# EAGLE library part AW-CU488 (library temp)
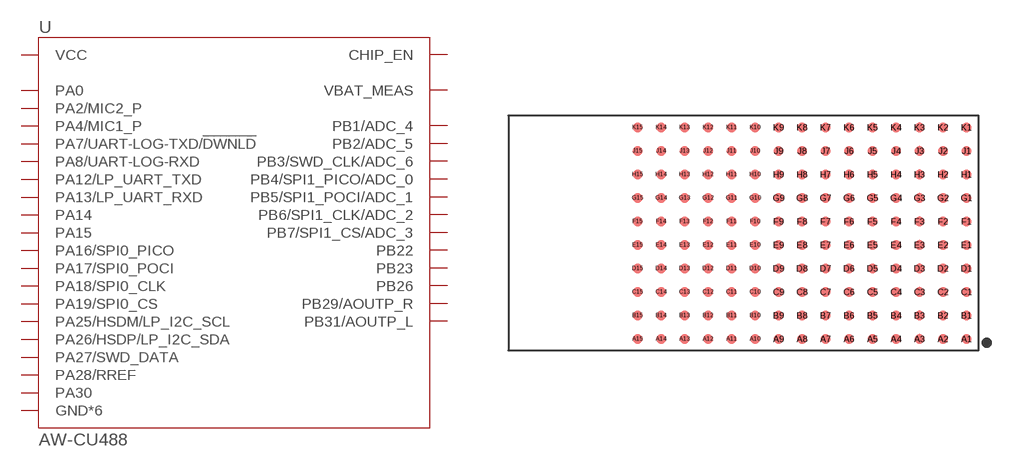
[diagram p0: symbol with the pads of LGA150_AW-CU488; footprint LGA150_AW-CU488]

Designator prefix -

## AW-CU488LGA150 (PROD_ID: IC-16762; VALUE: AW-CU488)  [LGA150_AW-CU488]
A1  GND*6
A2  GND*6
A3  PB1/ADC_4
A4  PB2/ADC_5
A5  PA25/HSDM/LP_I2C_SCL
A6  PA26/HSDP/LP_I2C_SDA
A7  PA28/RREF
A8  PA30
A9  PA27/SWD_DATA
A10  PA18/SPI0_CLK
A11  PA16/SPI0_PICO
A12  PA14
A13  PA12/LP_UART_TXD
A14  GND*6
A15  GND*6
B1  PB3/SWD_CLK/ADC_6
B2  PB4/SPI1_PICO/ADC_0
B10  PA19/SPI0_CS
B11  PA17/SPI0_POCI
B12  PA15
B13  PA13/LP_UART_RXD
B14  GND*6
B15  GND*6
C1  PB5/SPI1_POCI/ADC_1
C2  PB6/SPI1_CLK/ADC_2
C3  GND*6
C4  GND*6
C5  GND*6
C6  GND*6
C7  GND*6
C8  GND*6
C9  GND*6
C10  GND*6
C11  GND*6
C12  GND*6
C13  GND*6
C14  GND*6
C15  GND*6
D1  PB7/SPI1_CS/ADC_3
D2  VBAT_MEAS
D3  GND*6
D4  GND*6
D5  GND*6
D6  GND*6
D7  GND*6
D8  GND*6
D9  GND*6
D10  GND*6
D11  GND*6
D12  GND*6
D13  GND*6
D14  GND*6
D15  GND*6
E1  GND*6
E2  GND*6
E3  GND*6
E4  GND*6
E5  GND*6
E6  GND*6
E7  GND*6
E8  GND*6
E9  GND*6
E10  GND*6
E11  GND*6
E12  GND*6
E13  GND*6
E14  GND*6
E15  GND*6
F1  VCC
F2  GND*6
F3  GND*6
F4  GND*6
F5  GND*6
F6  GND*6
F7  GND*6
F8  GND*6
F9  GND*6
F10  GND*6
F11  GND*6
F12  GND*6
F13  GND*6
F14  GND*6
F15  GND*6
G1  GND*6
G2  GND*6
G3  GND*6
G4  GND*6
G5  GND*6
G6  GND*6
G7  GND*6
G8  GND*6
G9  GND*6
G10  GND*6
G11  GND*6
G12  GND*6
G13  GND*6
G14  GND*6
G15  GND*6
H3  GND*6
H4  GND*6
H5  GND*6
H6  GND*6
H7  GND*6
H8  GND*6
H9  GND*6
H10  GND*6
H11  GND*6
H12  GND*6
H13  GND*6
H14  GND*6
H15  GND*6
J14  GND*6
J15  GND*6
K1  PB22
K2  PB23
K3  GND*6
K4  GND*6
K5  PB26
K6  PB29/AOUTP_R
K7  PB31/AOUTP_L
K8  PA0
K9  PA4/MIC1_P
K10  PA2/MIC2_P
K11  CHIP_EN
K12  PA7/UART-LOG-TXD/!DWNLD!
K13  PA8/UART-LOG-RXD
K14  GND*6
K15  GND*6

## Footprint LGA150_AW-CU488 (pad centres in mm)
smd 0.75 x 0.75: A1 15.1,-8.1; A2 13.3,-8.1; A3 11.5,-8.1; A4 9.7,-8.1; A5 7.9,-8.1; A6 6.1,-8.1; A7 4.3,-8.1; A8 2.5,-8.1; A9 0.7,-8.1; A10 -1.1,-8.1; A11 -2.9,-8.1; A12 -4.7,-8.1; A13 -6.5,-8.1; A14 -8.3,-8.1; A15 -10.1,-8.1; B1 15.1,-6.3; B2 13.3,-6.3; B3 11.5,-6.3; B4 9.7,-6.3; B5 7.9,-6.3; B6 6.1,-6.3; B7 4.3,-6.3; B8 2.5,-6.3; B9 0.7,-6.3; B10 -1.1,-6.3; B11 -2.9,-6.3; B12 -4.7,-6.3; B13 -6.5,-6.3; B14 -8.3,-6.3; B15 -10.1,-6.3; C1 15.1,-4.5; C2 13.3,-4.5; C3 11.5,-4.5; C4 9.7,-4.5; C5 7.9,-4.5; C6 6.1,-4.5; C7 4.3,-4.5; C8 2.5,-4.5; C9 0.7,-4.5; C10 -1.1,-4.5; C11 -2.9,-4.5; C12 -4.7,-4.5; C13 -6.5,-4.5; C14 -8.3,-4.5; C15 -10.1,-4.5; D1 15.1,-2.7; D2 13.3,-2.7; D3 11.5,-2.7; D4 9.7,-2.7; D5 7.9,-2.7; D6 6.1,-2.7; D7 4.3,-2.7; D8 2.5,-2.7; D9 0.7,-2.7; D10 -1.1,-2.7; D11 -2.9,-2.7; D12 -4.7,-2.7; D13 -6.5,-2.7; D14 -8.3,-2.7; D15 -10.1,-2.7; E1 15.1,-0.9; E2 13.3,-0.9; E3 11.5,-0.9; E4 9.7,-0.9; E5 7.9,-0.9; E6 6.1,-0.9; E7 4.3,-0.9; E8 2.5,-0.9; E9 0.7,-0.9; E10 -1.1,-0.9; E11 -2.9,-0.9; E12 -4.7,-0.9; E13 -6.5,-0.9; E14 -8.3,-0.9; E15 -10.1,-0.9; F1 15.1,0.9; F2 13.3,0.9; F3 11.5,0.9; F4 9.7,0.9; F5 7.9,0.9; F6 6.1,0.9; F7 4.3,0.9; F8 2.5,0.9; F9 0.7,0.9; F10 -1.1,0.9; F11 -2.9,0.9; F12 -4.7,0.9; F13 -6.5,0.9; F14 -8.3,0.9; F15 -10.1,0.9; G1 15.1,2.7; G2 13.3,2.7; G3 11.5,2.7; G4 9.7,2.7; G5 7.9,2.7; G6 6.1,2.7; G7 4.3,2.7; G8 2.5,2.7; G9 0.7,2.7; G10 -1.1,2.7; G11 -2.9,2.7; G12 -4.7,2.7; G13 -6.5,2.7; G14 -8.3,2.7; G15 -10.1,2.7; H1 15.1,4.5; H2 13.3,4.5; H3 11.5,4.5; H4 9.7,4.5; H5 7.9,4.5; H6 6.1,4.5; H7 4.3,4.5; H8 2.5,4.5; H9 0.7,4.5; H10 -1.1,4.5; H11 -2.9,4.5; H12 -4.7,4.5; H13 -6.5,4.5; H14 -8.3,4.5; H15 -10.1,4.5; J1 15.1,6.3; J2 13.3,6.3; J3 11.5,6.3; J4 9.7,6.3; J5 7.9,6.3; J6 6.1,6.3; J7 4.3,6.3; J8 2.5,6.3; J9 0.7,6.3; J10 -1.1,6.3; J11 -2.9,6.3; J12 -4.7,6.3; J13 -6.5,6.3; J14 -8.3,6.3; J15 -10.1,6.3; K1 15.1,8.1; K2 13.3,8.1; K3 11.5,8.1; K4 9.7,8.1; K5 7.9,8.1; K6 6.1,8.1; K7 4.3,8.1; K8 2.5,8.1; K9 0.7,8.1; K10 -1.1,8.1; K11 -2.9,8.1; K12 -4.7,8.1; K13 -6.5,8.1; K14 -8.3,8.1; K15 -10.1,8.1